# Altium integrated library connectors.IntLib: 3 symbols
Pins are listed as number, name and electrical type; pins without a type are passive.

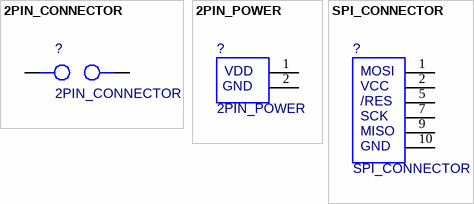
[diagram p0: symbols 2PIN_CONNECTOR to SPI_CONNECTOR]

## 2PIN_CONNECTOR
designator ?
Value: *
footprint 2PIN_CONNECTOR
pins: 1, 2

## 2PIN_POWER
designator ?
Value: *
footprint 2PIN_POWER
pins: 1, 2
text: VDD; GND

## SPI_CONNECTOR
designator ?
Value: *
footprint SPI_CONNECTOR
pins: 1, 2, 5, 7, 9, 10
text: MOSI; VCC; /RES; SCK; MISO; GND